# Altium schematic symbol library RJMG1S8008101BR.SchLib: 1 symbol
Pins are listed as number, name and electrical type; pins without a type are passive.

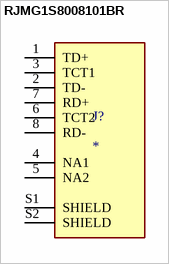
[diagram p0: symbol RJMG1S8008101BR]

## RJMG1S8008101BR
designator J?
MF: {'manufacturer': u'Amphenol ICC (Commercial Products)'}; MP: RJMG1S8008101BR; Package: None; Price: None; Value: *; Availability: Unavailable
footprint AMPHENOL_RJMG1S8008101BR
pins: 1 TD+, 2 TD-, 3 TCT1, 4 NA1, 5 NA2, 6 TCT2, 7 RD+, 8 RD-, S1 SHIELD, S2 SHIELD